# Altium footprint library OPTOELECTRONIC_Test.PcbLib: 12 footprints
Each footprint in its own frame and in the unit in brackets; x right, y up, seen from the top. Pads: shape width x height; smd on the part's side, far side on the other; paste and mask are expansions set on the pad; w line width, h text height; cw(c..) or ccw(c..) is an arc to the next point about the centre after c.
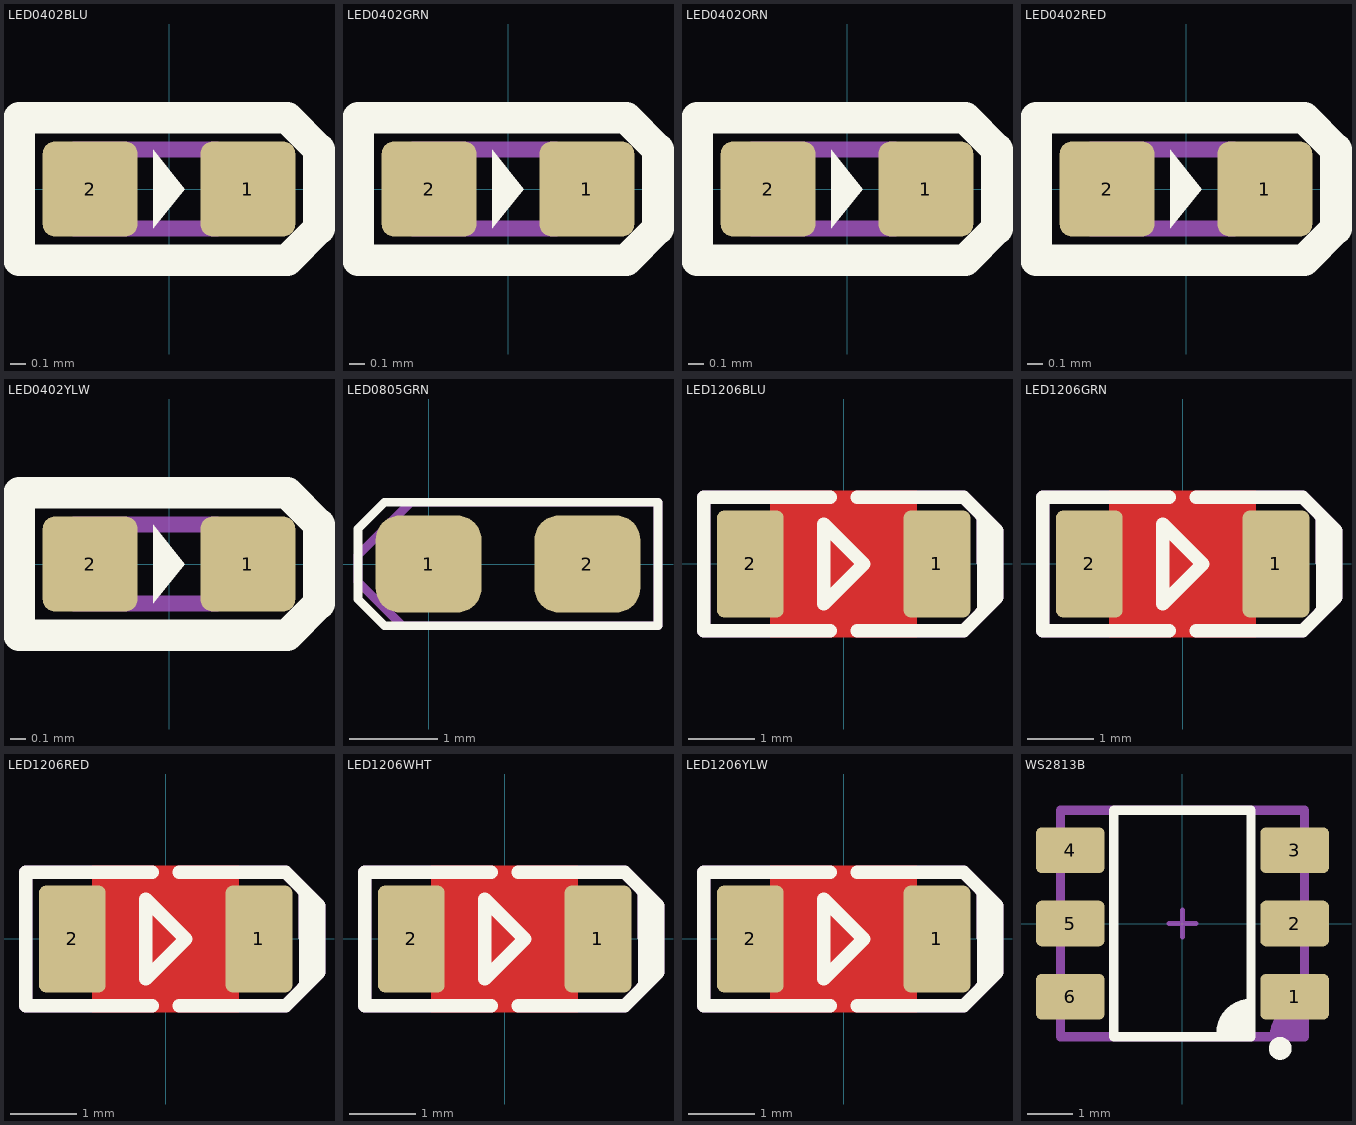
[diagram p0: the footprints below, top view; thin cyan lines are the x and y axes]

## LED0402BLU [mm] "LED SMD 0402, BLUE"
pads (2):
  rrect25% 0.6x0.6 smd mask+0.075: 1(0.5,0) 2(-0.5,0)
Top Overlay:
  region: -0.1,0.25 -0.1,-0.25 0.1,0
  lines w0.2: -0.95,-0.45 -0.95,0.45 0.75,0.45 0.95,0.25 0.95,-0.25 0.75,-0.45 -0.95,-0.45
Mechanical 29 (Mech29):
  lines w0.1: -0.6,-0.25 0.3,-0.25 0.6,-0.15 0.6,0.15 0.3,0.25 -0.6,0.25 -0.6,-0.25
  text "'.Designator'" at -0.491,-0.046 h0.2
3D body "led_0402B.step": height 0.45, standoff 0, extent -0.505,-0.25 0.505,0.25

## LED0402GRN [mm] "LED SMD 0402, GREEN"
pads (2):
  rrect25% 0.6x0.6 smd mask+0.075: 1(0.5,0) 2(-0.5,0)
Top Overlay:
  region: -0.1,0.25 -0.1,-0.25 0.1,0
  lines w0.2: -0.95,-0.45 0.75,-0.45 0.95,-0.25 0.95,0.25 0.75,0.45 -0.95,0.45 -0.95,-0.45
Mechanical 29 (Mech29):
  lines w0.1: -0.6,-0.25 -0.6,0.25 0.3,0.25 0.6,0.15 0.6,-0.15 0.3,-0.25 -0.6,-0.25
  text "'.Designator'" at -0.491,-0.046 h0.2
3D body "led_0402G.step": height 0.45, standoff 0, extent -0.505,-0.25 0.505,0.25

## LED0402ORN [mm] "LED SMD 0402, ORANGE"
pads (2):
  rrect25% 0.6x0.6 smd mask+0.075: 1(0.5,0) 2(-0.5,0)
Top Overlay:
  region: -0.1,0.25 -0.1,-0.25 0.1,0
  lines w0.2: -0.95,-0.45 0.75,-0.45 0.95,-0.25 0.95,0.25 0.75,0.45 -0.95,0.45 -0.95,-0.45
Mechanical 29 (Mech29):
  lines w0.1: -0.6,-0.25 -0.6,0.25 0.3,0.25 0.6,0.15 0.6,-0.15 0.3,-0.25 -0.6,-0.25
  text "'.Designator'" at -0.491,-0.046 h0.2
3D body "User Library-led_0402.step": height 0.46, standoff 0.01, extent -0.505,-0.25 0.505,0.25

## LED0402RED [mm] "LED SMD 0402, RED"
pads (2):
  rrect25% 0.6x0.6 smd mask+0.075: 1(0.5,0) 2(-0.5,0)
Top Overlay:
  region: -0.1,0.25 -0.1,-0.25 0.1,0
  lines w0.2: -0.95,-0.45 -0.95,0.45 0.75,0.45 0.95,0.25 0.95,-0.25 0.75,-0.45 -0.95,-0.45
Mechanical 29 (Mech29):
  lines w0.1: -0.6,-0.25 -0.6,0.25 0.3,0.25 0.6,0.15 0.6,-0.15 0.3,-0.25 -0.6,-0.25
  text "'.Designator'" at -0.491,-0.046 h0.2
3D body "led_0402R.step": height 0.45, standoff 0, extent -0.505,-0.25 0.505,0.25

## LED0402YLW [mm] "LED SMD 0402, YELLOW"
pads (2):
  rrect25% 0.6x0.6 smd mask+0.075: 1(0.5,0) 2(-0.5,0)
Top Overlay:
  region: -0.1,0.25 -0.1,-0.25 0.1,0
  lines w0.2: -0.95,-0.45 0.75,-0.45 0.95,-0.25 0.95,0.25 0.75,0.45 -0.95,0.45 -0.95,-0.45
Mechanical 29 (Mech29):
  lines w0.1: -0.6,-0.25 -0.6,0.25 0.3,0.25 0.6,0.15 0.6,-0.15 0.3,-0.25 -0.6,-0.25
  text "'.Designator'" at -0.491,-0.046 h0.2
3D body "led_0402Y.step": height 0.45, standoff 0, extent -0.505,-0.25 0.505,0.25

## LED0805GRN [mm]
pads (2):
  rrect50% 1.2x1.1 smd: 1(0,0) 2(1.8,0)
Top Overlay:
  lines w0.1: -0.8,-0.4 -0.8,0.4 -0.5,0.7 -0.4,0.7 2.6,0.7 2.6,-0.7 -0.4,-0.7 -0.5,-0.7 -0.8,-0.4
Mechanical 29 (Mech29):
  lines w0.1: -0.8,-0.2 -0.8,0.1 -0.2,0.7 2.6,0.7 2.6,-0.7 -0.3,-0.7 -0.8,-0.2
  text "'.Designator'" at -0.2,-0.2 h0.5
3D body "150080AS75000_Download_STP_WL-SMCW-0805_rev1.stp": height 0.8, standoff 0.1, extent -0.1,-0.625 1.9,0.625

## LED1206BLU [mm] "LED, 1206, BLUE"
pads (2):
  rrect20% 1x1.6 smd mask+0.075: 1(1.4,0) 2(-1.4,0)
Top Layer:
  pour cut-out: -1.1,1.1 -1.1,-1.1 1.1,-1.1 1.1,1.1
Top Overlay:
  region: 2,0.7 2,-0.7 2.3,-0.4 2.3,0.4
  lines w0.2: -0.2,-1 -2.1,-1 -2.1,1 -0.2,1 ; 0.2,-1 1.8,-1 2.3,-0.5 2.3,0.5 1.8,1 0.2,1 ; -0.3,-0.6 -0.3,0.6 0.3,0 -0.3,-0.6
Mechanical 29 (Mech29):
  region: 2,0.7 2,-0.7 2.3,-0.4 2.3,0.4
  lines w0.2: -0.2,-1 -2.1,-1 -2.1,1 -0.2,1 ; 0.2,-1 1.8,-1 2.3,-0.5 2.3,0.5 1.8,1 0.2,1 ; -0.3,-0.6 -0.3,0.6 0.3,0 -0.3,-0.6
3D body "User Library-Wurth Elektronik WL-SMCW 1206 (3216) LED Base (Separate Lens).step": height 0.62, standoff 0, extent -1.6,-0.8 1.6,0.8
3D body "User Library-Wurth Elektronik WL-SMCW 1206 (3216) LED Lens (Separate Body).step": height 0.68, standoff 0.28, extent -1,-0.8 1,0.8

## LED1206GRN [mm] "LED, 1206, GREEN"
pads (2):
  rrect20% 1x1.6 smd mask+0.075: 1(1.4,0) 2(-1.4,0)
Top Layer:
  pour cut-out: -1.1,1.1 -1.1,-1.1 1.1,-1.1 1.1,1.1
Top Overlay:
  region: 2,0.7 2,-0.7 2.3,-0.4 2.3,0.4
  lines w0.2: -0.2,-1 -2.1,-1 -2.1,1 -0.2,1 ; 0.2,-1 1.8,-1 2.3,-0.5 2.3,0.5 1.8,1 0.2,1 ; -0.3,-0.6 -0.3,0.6 0.3,0 -0.3,-0.6
Mechanical 29 (Mech29):
  region: 2,0.7 2,-0.7 2.3,-0.4 2.3,0.4
  lines w0.2: -0.2,-1 -2.1,-1 -2.1,1 -0.2,1 ; 0.2,-1 1.8,-1 2.3,-0.5 2.3,0.5 1.8,1 0.2,1 ; -0.3,-0.6 -0.3,0.6 0.3,0 -0.3,-0.6
3D body "User Library-Wurth Elektronik WL-SMCW 1206 (3216) LED Base (Separate Lens).step": height 0.62, standoff 0, extent -1.6,-0.8 1.6,0.8
3D body "User Library-Wurth Elektronik WL-SMCW 1206 (3216) LED Lens (Separate Body).step": height 0.68, standoff 0.28, extent -1,-0.8 1,0.8

## LED1206RED [mm] "LED, 1206, RED"
pads (2):
  rrect20% 1x1.6 smd mask+0.075: 1(1.4,0) 2(-1.4,0)
Top Layer:
  pour cut-out: -1.1,1.1 -1.1,-1.1 1.1,-1.1 1.1,1.1
Top Overlay:
  region: 2,0.7 2,-0.7 2.3,-0.4 2.3,0.4
  lines w0.2: -0.2,-1 -2.1,-1 -2.1,1 -0.2,1 ; 0.2,-1 1.8,-1 2.3,-0.5 2.3,0.5 1.8,1 0.2,1 ; -0.3,-0.6 -0.3,0.6 0.3,0 -0.3,-0.6
Mechanical 29 (Mech29):
  region: 2,0.7 2,-0.7 2.3,-0.4 2.3,0.4
  lines w0.2: -0.2,-1 -2.1,-1 -2.1,1 -0.2,1 ; 0.2,-1 1.8,-1 2.3,-0.5 2.3,0.5 1.8,1 0.2,1 ; -0.3,-0.6 -0.3,0.6 0.3,0 -0.3,-0.6
3D body "User Library-Wurth Elektronik WL-SMCW 1206 (3216) LED Base (Separate Lens).step": height 0.62, standoff 0, extent -1.6,-0.8 1.6,0.8
3D body "User Library-Wurth Elektronik WL-SMCW 1206 (3216) LED Lens (Separate Body).step": height 0.68, standoff 0.28, extent -1,-0.8 1,0.8

## LED1206WHT [mm] "LED, 1206, WHITE"
pads (2):
  rrect20% 1x1.6 smd mask+0.075: 1(1.4,0) 2(-1.4,0)
Top Layer:
  pour cut-out: -1.1,1.1 -1.1,-1.1 1.1,-1.1 1.1,1.1
Top Overlay:
  region: 2,0.7 2,-0.7 2.3,-0.4 2.3,0.4
  lines w0.2: -0.2,-1 -2.1,-1 -2.1,1 -0.2,1 ; 0.2,-1 1.8,-1 2.3,-0.5 2.3,0.5 1.8,1 0.2,1 ; -0.3,-0.6 0.3,0 -0.3,0.6 -0.3,-0.6
Mechanical 29 (Mech29):
  region: 2,0.7 2,-0.7 2.3,-0.4 2.3,0.4
  lines w0.2: -0.2,-1 -2.1,-1 -2.1,1 -0.2,1 ; 0.2,-1 1.8,-1 2.3,-0.5 2.3,0.5 1.8,1 0.2,1 ; -0.3,-0.6 -0.3,0.6 0.3,0 -0.3,-0.6
3D body "User Library-Wurth Elektronik WL-SMCW 1206 (3216) LED Lens (Separate Body).step": height 0.68, standoff 0.28, extent -1,-0.8 1,0.8
3D body "User Library-Wurth Elektronik WL-SMCW 1206 (3216) LED Base (Separate Lens).step": height 0.62, standoff 0, extent -1.6,-0.8 1.6,0.8

## LED1206YLW [mm] "LED, 1206, YELLOW"
pads (2):
  rrect20% 1x1.6 smd mask+0.075: 1(1.4,0) 2(-1.4,0)
Top Layer:
  pour cut-out: -1.1,1.1 -1.1,-1.1 1.1,-1.1 1.1,1.1
Top Overlay:
  region: 2,0.7 2,-0.7 2.3,-0.4 2.3,0.4
  lines w0.2: -0.2,-1 -2.1,-1 -2.1,1 -0.2,1 ; 0.2,-1 1.8,-1 2.3,-0.5 2.3,0.5 1.8,1 0.2,1 ; -0.3,-0.6 0.3,0 -0.3,0.6 -0.3,-0.6
Mechanical 29 (Mech29):
  region: 2,0.7 2,-0.7 2.3,-0.4 2.3,0.4
  lines w0.2: -0.2,-1 -2.1,-1 -2.1,1 -0.2,1 ; 0.2,-1 1.8,-1 2.3,-0.5 2.3,0.5 1.8,1 0.2,1 ; -0.3,-0.6 -0.3,0.6 0.3,0 -0.3,-0.6
3D body "User Library-Wurth Elektronik WL-SMCW 1206 (3216) LED Lens (Separate Body).step": height 0.68, standoff 0.28, extent -1,-0.8 1,0.8
3D body "User Library-Wurth Elektronik WL-SMCW 1206 (3216) LED Base (Separate Lens).step": height 0.62, standoff 0, extent -1.6,-0.8 1.6,0.8

## WS2813B [mm]
pads (6):
  rrect25% 1.5x1 smd mask+0.05: 1(2.45,-1.6) 2(2.45,0) 3(2.45,1.6) 4(-2.45,1.6) 5(-2.45,0) 6(-2.45,-1.6)
Top Overlay:
  circle w0.25: c2.135,-2.729 r0.125
  region: 1.5,-2.475 0.813,-2.475 0.813,-2.094 1.194,-1.713 1.5,-1.713
  lines w0.15: 0.813,-2.4 cw(c1.5,-2.4) 1.5,-1.713
  lines w0.2: -1.5,-2.475 -1.5,2.475 1.5,2.475 1.5,-2.475 -1.5,-2.475
Mechanical 15:
  lines w0.1: -0.3,0 0.3,0 ; 0,-0.3 0,0.3
Mechanical 29 (Mech29):
  region: 2.718,-2.515 2.031,-2.515 2.031,-2.134 2.412,-1.753 2.718,-1.753
  lines w0.15: 1.98,-2.465 cw(c2.667,-2.465) 2.667,-1.778
  lines w0.2: -2.667,-2.475 2.667,-2.475 2.667,2.475 -2.667,2.475 -2.667,-2.475
  text "'.Designator'" at -1.84,-0.172 h0.76
3D body "User Library-APA102C_RGB.step": height 1.55, standoff 0, extent -2.75,-2.5 2.75,2.5